# Altium schematic symbol library my schematics.SchLib: 23 symbols
Pins are listed as number, name and electrical type; pins without a type are passive.

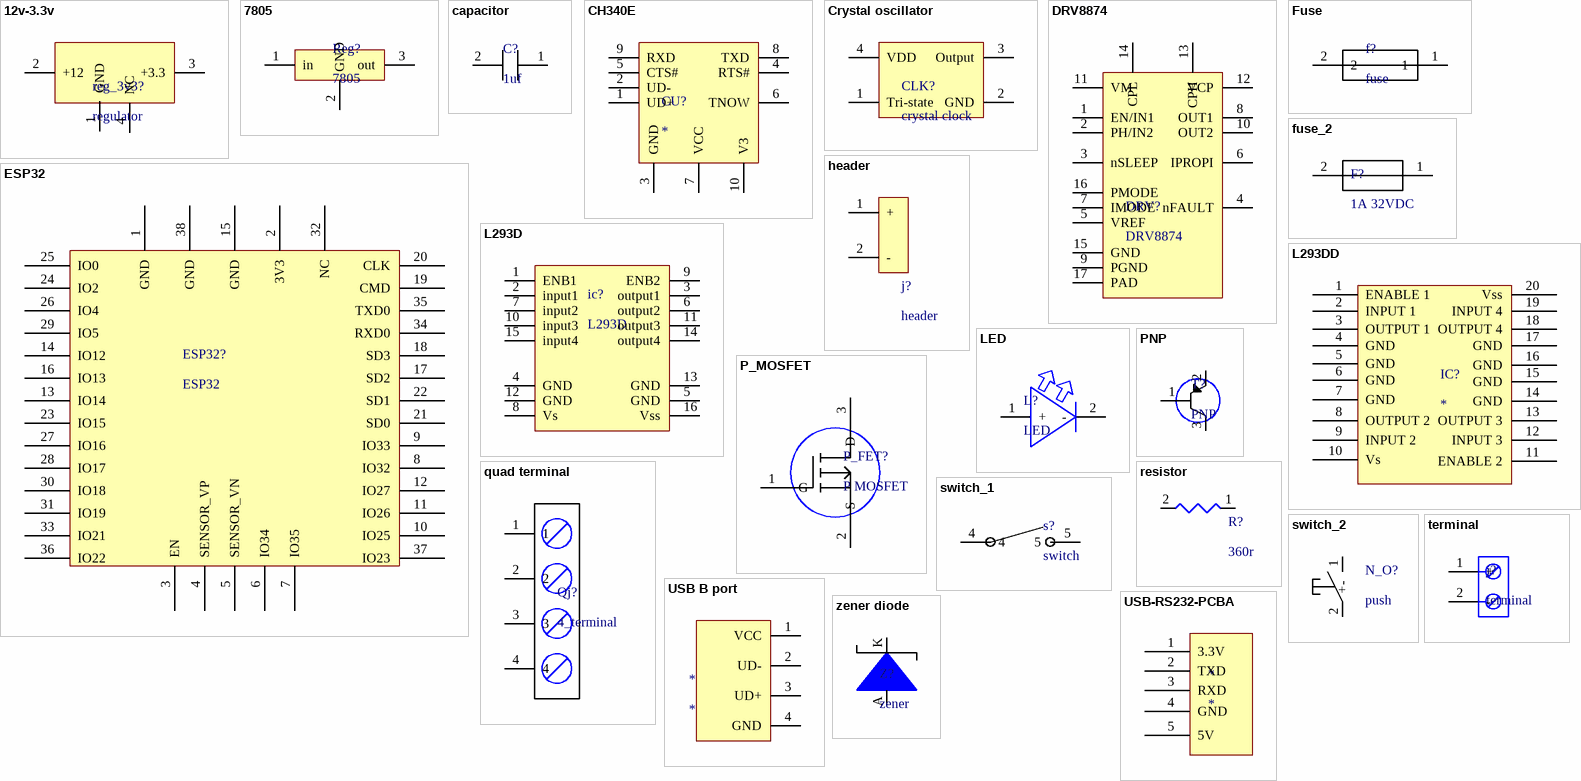
[diagram p0: symbols 12v-3.3v to zener diode]

## 12v-3.3v
designator reg_3v3?, comment regulator
Fixed Positive LDO Regulator, 3.3V, 1V Dropout, CMOS, PDSO4; Manufacturer: ON Semiconductor; Manufacturer Part Number: NCP553SQ33T1G; Package Body Material: Plastic; Dropout Voltage1-Nom: 650mV; Input Voltage Absolute-Max: 12V; Min Input Voltage: 4.3V; Line Regulation-Max: 0.0347%; Load Regulation-Max: 0.0632%; Channels: 1; Output Current1-Max: 80mA; Output Voltage1-Max: 3.399V; Output Voltage1-Min: 3.201V; Package Equivalence Code: SOT-343R; Regulator Type: FIXED POSITIVE SINGLE OUTPUT LDO REGULATOR; Time @ Peak Reflow Temperature-Max (s): 40s; Voltage Tolerance-Max: 3%; Qualification Status: Not Qualified; Supplier: Digikey; Supplier Part Number: NCP553SQ33T1GOSCT-ND; RoHS: Yes; Category: Voltage Regulators - Linear; Stock: 9110; Pricing: 1=0.63, 10=0.555, 25=0.5216, 100=0.3954, 250=0.33652, 500=0.3197, 1000=0.24399 (USD); Case/Package: TSOP; Pins: 4; Package Shape: Rectangular; Terminal Finish: Tin; Min Operating Temperature: -40°C; Max Operating Temperature: 85°C; JESD-609 Code: e3; Adjustability: FIXED; Dropout Voltage1-Max: 1V; Max Supply Voltage: 12V; JESD-30 Code: R-PDSO-G4; Moisture Sensitivity Level: 1; Number of Outputs: 1; Operating Temperature, TJ-Max: 125°C; Output Voltage1-Nom: 3.3V; Package Style: SMALL OUTLINE, THIN PROFILEMeter; Packaging: Tape and Reel; Peak Reflow Temperature (Cel): 260°C; Surface Mount: Yes; Technology: CMOS; Terminal Form: Gull Wing; Terminal Position: DUAL; Length: 2mm; Width: 1.25mm; Height - Seated (Max): 1.1mm; Terminal Pitch: 1.3mm; Reach SVHC Compliant: Yes; RoHS Compliant: Yes; ComponentLink1URL: https://datasheet.ciiva.com:443/pdfs/VipMasterIC/IC/ONSM/ONSM-S-A0003590534/ONSM-S-A0002812272-1.pdf?src-supplier=IHS+Markit; ComponentLink1Description: https://datasheet.ciiva.com:443/pdfs/VipMasterIC/IC/ONSM/ONSM-S-A0003590534/ONSM-S-A0002812272-1.pdf?src-supplier=IHS+Markit; ComponentLink2URL: https://datasheet.ciiva.com/16468/ncp552-d-16468774.pdf?src-supplier=Future+Electronics; ComponentLink2Description: https://datasheet.ciiva.com/16468/ncp552-d-16468774.pdf?src-supplier=Future+Electronics; ComponentLink3URL: https://datasheet.ciiva.com/8231/ncp553-d-8231626.pdf?src-supplier=Avnet; ComponentLink3Description: https://datasheet.ciiva.com/8231/ncp553-d-8231626.pdf?src-supplier=Avnet; ComponentLink4URL: https://datasheet.ciiva.com/6581/ncp553-d-6581414.pdf?src-supplier=Digikey; ComponentLink4Description: https://datasheet.ciiva.com/6581/ncp553-d-6581414.pdf?src-supplier=Digikey
footprint reg_3V3
pins: 1 GND, 2 +12, 3 +3.3, 4 NC

## 7805
designator Reg?
Fixed Positive Standard Regulator, 5VBIPolar, PSFM3; Manufacturer: STMicroelectronics; Manufacturer Part Number: L7805C-V; Max Supply Voltage: 25V; Min Input Voltage: 7V; Channels: 1; Output Current1-Max: 1.5A; Output Voltage1-Max: 5.25V; Output Voltage1-Min: 4.75V; Output Voltage1-Nom: 5V; Regulator Type: FIXED POSITIVE SINGLE OUTPUT STANDARD REGULATOR; Surface Mount: No; Qualification Status: Not Qualified; Supplier: Future Electronics; Supplier Part Number: 4561296; RoHS: Yes; Category: Voltage Regulators - Linear; Stock: 420050; Pricing: 50=0.137, 750=0.13, 2500=0.126, 7500=0.123, 25000=0.115 (USD); Pins: 3; Package Shape: Rectangular; Terminal Finish: Tin; JESD-609 Code: e3; Operating Temperature, TJ-Max: 125°C; Operating Temperature, TJ-Min: 0°C; Package Style: FLANGE MOUNTMeter; Technology: BIPOLAR; Terminal Form: Through Hole; Terminal Position: SINGLE; RoHS Compliant: Yes; Reach SVHC Compliant: No; ComponentLink1URL: https://datasheet.ciiva.com:443/pdfs/VipMasterIC/IC/SGST/SGST-S-A0006334694/SGST-S-A0006334694-1.pdf?src-supplier=IHS+Markit; ComponentLink1Description: https://datasheet.ciiva.com:443/pdfs/VipMasterIC/IC/SGST/SGST-S-A0006334694/SGST-S-A0006334694-1.pdf?src-supplier=IHS+Markit; ComponentLink2URL: https://datasheet.ciiva.com/15111/getdatasheetpartid-44136-15111027.pdf?src-supplier=Verical; ComponentLink2Description: https://datasheet.ciiva.com/15111/getdatasheetpartid-44136-15111027.pdf?src-supplier=Verical; ComponentLink3URL: https://datasheet.ciiva.com/19480/924633-19480531.pdf?src-supplier=Jameco; ComponentLink3Description: https://datasheet.ciiva.com/19480/924633-19480531.pdf?src-supplier=Jameco; ComponentLink4URL: https://datasheet.ciiva.com/29156/156048-da-01-en-spannungsregler-l-7805-cv-to220-stm-29156924.pdf?src-supplier=Conrad; ComponentLink4Description: https://datasheet.ciiva.com/29156/156048-da-01-en-spannungsregler-l-7805-cv-to220-stm-29156924.pdf?src-supplier=Conrad; ComponentLink5URL: https://datasheet.ciiva.com/2043/cd00000444-2043986.pdf?src-supplier=Digikey; ComponentLink5Description: https://datasheet.ciiva.com/2043/cd00000444-2043986.pdf?src-supplier=Digikey; ComponentLink6URL: https://datasheet.ciiva.com/1512/1805459-1512333.pdf?src-supplier=Element14; ComponentLink6Description: https://datasheet.ciiva.com/1512/1805459-1512333.pdf?src-supplier=Element14; ComponentLink7URL: https://datasheet.ciiva.com/14149/tel78xx-l78xxc-e-14149770.pdf?src-supplier=Distrelec; ComponentLink7Description: https://datasheet.ciiva.com/14149/tel78xx-l78xxc-e-14149770.pdf?src-supplier=Distrelec; ComponentLink8URL: https://datasheet.ciiva.com/6884/1805459-6884463.pdf?src-supplier=Newark; ComponentLink8Description: https://datasheet.ciiva.com/6884/1805459-6884463.pdf?src-supplier=Newark; ComponentLink9URL: https://datasheet.ciiva.com/2073/cd00000444-2073087.pdf?src-supplier=Digikey; ComponentLink9Description: https://datasheet.ciiva.com/2073/cd00000444-2073087.pdf?src-supplier=Digikey; ComponentLink10URL: https://datasheet.ciiva.com/16458/cd00000444-16458159.pdf?src-supplier=Future+Electronics; ComponentLink10Description: https://datasheet.ciiva.com/16458/cd00000444-16458159.pdf?src-supplier=Future+Electronics; ComponentLink11URL: https://datasheet.ciiva.com/1511/1805459-1511914.pdf?src-supplier=Element14; ComponentLink11Description: https://datasheet.ciiva.com/1511/1805459-1511914.pdf?src-supplier=Element14; ComponentLink12URL: https://datasheet.ciiva.com/1511/1805459-1511915.pdf?src-supplier=Element14; ComponentLink12Description: https://datasheet.ciiva.com/1511/1805459-1511915.pdf?src-supplier=Element14
footprint 7805
pins: 1 in, 2 GND, 3 out

## capacitor
designator C?, comment 1uf
Aluminum Electrolytic Capacitor, Aluminum (wet); Manufacturer: Wurth Electronics; Manufacturer Part Number: 860020672005; Dielectric Material: Aluminium; Supplier: Digikey; Supplier Part Number: 732-8851-1-ND; RoHS: Yes; Category: Aluminum Electrolytic Capacitors; Stock: 10459; Pricing: 1=0.1, 50=0.089, 100=0.078, 250=0.069, 500=0.06, 1000=0.058 (USD); Pins: 2; Capacitor Type: Aluminium; Reach SVHC Compliant: Yes; RoHS Compliant: Yes; ComponentLink1URL: https://datasheet.ciiva.com:443/pdfs/VipMasterIC/IC/MIDC/MIDC-S-A0000764616/MIDC-S-A0000764162-1.pdf?src-supplier=IHS+Markit; ComponentLink1Description: https://datasheet.ciiva.com:443/pdfs/VipMasterIC/IC/MIDC/MIDC-S-A0000764616/MIDC-S-A0000764162-1.pdf?src-supplier=IHS+Markit; ComponentLink2URL: http://www.farnell.com/datasheets/1879647.pdf?src-supplier=Farnell; ComponentLink2Description: http://www.farnell.com/datasheets/1879647.pdf?src-supplier=Farnell; ComponentLink3URL: http://katalog.we-online.de/pbs/datasheet/860020672005.pdf?src-supplier=Digikey; ComponentLink3Description: http://katalog.we-online.de/pbs/datasheet/860020672005.pdf?src-supplier=Digikey; ComponentLink4URL: https://katalog.we-online.de/pbs/datasheet/860020672005.pdf?src-supplier=Digikey; ComponentLink4Description: https://katalog.we-online.de/pbs/datasheet/860020672005.pdf?src-supplier=Digikey; ComponentLink5URL: http://www.farnell.com/datasheets/1879647.pdf?src-supplier=Element14; ComponentLink5Description: http://www.farnell.com/datasheets/1879647.pdf?src-supplier=Element14
footprint Capacitor
pins: 1 34, 2 33

## CH340E
designator CU?
footprint CH340E
pins: 1 UD+, 2 UD-, 3 GND, 4 RTS#, 5 CTS#, 6 TNOW, 7 VCC, 8 TXD, 9 RXD, 10 V3

## Crystal oscillator
designator CLK?, comment crystal clock
Oscillator XO 0.032768MHz ±25ppm 15pF 60% 3.3V 4-Pin SMD T/R; Manufacturer: Abracon; Manufacturer Part Number: ASEK-32.768KHZ-L-R-T; Supplier: Mouser; Supplier Part Number: 815-ASEK-32.7K-LRT; RoHS: No; Stock: 5543; Pricing: 1=1.33, 10=1.04, 50=1.04, 100=0.986, 1000=0.787, 10000=0.696 (USD)
footprint Crystal Oscillator
pins: 1 Tri-state, 2 GND, 3 Output, 4 VDD

## DRV8874
designator DRV?
Brush DC Motor Controller, 6A, PDSO16; Manufacturer: Texas Instruments; Manufacturer Part Number: DRV8874QPWPRQ1; Supplier: Digikey; Supplier Part Number: 296-DRV8874QPWPRQ1DKR-ND; RoHS: Yes; Category: Integrated Circuits (ICs); Pricing: 1=2.89, 10=2.596, 25=2.4544, 100=2.1271, 250=2.018, 500=1.81072, 1000=1.52712 (USD); RoHS Compliant: Yes; ComponentLink1URL: https://www.ti.com:443/lit/ds/symlink/drv8874-q1.pdf?src-supplier=IHS+Markit; ComponentLink1Description: https://www.ti.com:443/lit/ds/symlink/drv8874-q1.pdf?src-supplier=IHS+Markit
footprint DRV8874
footprint DRV8874
pins: 1 EN/IN1, 2 PH/IN2, 3 nSLEEP, 4 nFAULT, 5 VREF, 6 IPROPI, 7 IMODE, 8 OUT1, 9 PGND, 10 OUT2, 11 VM, 12 VCP, 13 CPH, 14 CPL, 15 GND, 16 PMODE, 17 PAD

## ESP32
designator ESP32?
footprint ESP32
pins: 1 GND, 2 3V3, 3 EN, 4 SENSOR_VP, 5 SENSOR_VN, 6 IO34, 7 IO35, 8 IO32, 9 IO33, 10 IO25, 11 IO26, 12 IO27, 13 IO14, 14 IO12, 15 GND, 16 IO13, 17 SD2, 18 SD3, 19 CMD, 20 CLK, 21 SD0, 22 SD1, 23 IO15, 24 IO2, 25 IO0, 26 IO4, 27 IO16, 28 IO17, 29 IO5, 30 IO18, 31 IO19, 32 NC, 33 IO21, 34 RXD0, 35 TXD0, 36 IO22, 37 IO23, 38 GND

## Fuse
designator f?, comment fuse
Electric Fuse, Fast Blow, 1A, 32VAC, 63VDC, 35A (IR), Surface Mount, 0603; Manufacturer: Bel; Manufacturer Part Number: 0686F1000-01; Supplier: Digikey; Supplier Part Number: 507-2147-1-ND; RoHS: Yes; Category: Fuses; Stock: 87373; Pricing: 1=0.25, 5=0.206, 10=0.19, 50=0.1582, 100=0.1462, 250=0.13176, 500=0.12174, 1000=0.11246 (USD); ComponentLink1URL: https://belfuse.com/resources/C2F%200686F%20Apr%202017.pdf?src-supplier=Digikey; ComponentLink1Description: https://belfuse.com/resources/C2F%200686F%20Apr%202017.pdf?src-supplier=Digikey
footprint Fuse
pins: 1, 2

## fuse_2
designator F?, comment 1A 32VDC
Electric Fuse, Very Fast Blow, 1.5A, 32VDC, 50A (IR), Surface Mount; Manufacturer: Vishay; Manufacturer Part Number: MFU0805FF01500P100; Joule-integral-Nom: 0.0059J; Voltage Rating (DC): 32V; Body Breadth: 1.25inch; Body Height: 0.45mm; Body Length or Diameter: 2mm; Reference Standard: UL; Supplier: Mouser; Supplier Part Number: 594-MFU0805FF01500P1; RoHS: Yes; Category: Fuses; Stock: 5466; Pricing: 1=0.59, 10=0.479, 50=0.479, 100=0.362, 1000=0.271, 10000=0.235 (USD); Mounting Technology: Surface Mount; Terminal Finish: Tin; Min Operating Temperature: 15°C; Max Operating Temperature: 35°C; JESD-609 Code: e3; Blow Characteristic: VERY FAST; Circuit Protection Type: Electric Fuse; Packaging: Tape and Reel; Rated Breaking Capacity: 50A; Current Rating: 1.5A; Termination: Wraparound; Reach SVHC Compliant: Yes; RoHS Compliant: Yes; ComponentLink1URL: https://datasheet.ciiva.com:443/pdfs/VipMasterIC/IC/VISH/VISH-S-A0001809179/VISH-S-A0001809179-1.pdf?src-supplier=IHS+Markit; ComponentLink1Description: https://datasheet.ciiva.com:443/pdfs/VipMasterIC/IC/VISH/VISH-S-A0001809179/VISH-S-A0001809179-1.pdf?src-supplier=IHS+Markit; ComponentLink2URL: http://www.farnell.com/datasheets/1480005.pdf?src-supplier=Farnell; ComponentLink2Description: http://www.farnell.com/datasheets/1480005.pdf?src-supplier=Farnell; ComponentLink3URL: http://www.mouser.com/ds/2/427/mfuserie-239895.pdf?src-supplier=Mouser; ComponentLink3Description: http://www.mouser.com/ds/2/427/mfuserie-239895.pdf?src-supplier=Mouser; ComponentLink4URL: http://www.vishay.com/docs/28747/mfuserie.pdf?src-supplier=Digikey; ComponentLink4Description: http://www.vishay.com/docs/28747/mfuserie.pdf?src-supplier=Digikey; ComponentLink5URL: http://www.vishay.com/docs/28747/mfuserie.pdf?src-supplier=Avnet; ComponentLink5Description: http://www.vishay.com/docs/28747/mfuserie.pdf?src-supplier=Avnet; ComponentLink6URL: https://datasheet.octopart.com/MFU0805FF01500P100.-Vishay-datasheet-78835177.pdf?src-supplier=Element14; ComponentLink6Description: https://datasheet.octopart.com/MFU0805FF01500P100.-Vishay-datasheet-78835177.pdf?src-supplier=Element14; ComponentLink7URL: http://www.farnell.com/datasheets/1480005.pdf?src-supplier=Element14; ComponentLink7Description: http://www.farnell.com/datasheets/1480005.pdf?src-supplier=Element14
footprint Fuse_2
pins: 1 56, 2 57

## header
designator j?
Board Connector, 2 Contact(s), 1 Row(s), Male, Straight, Solder Terminal; Manufacturer: Molex; Manufacturer Part Number: 0022292021; Supplier: Mouser; Supplier Part Number: 538-22-29-2021; RoHS: No; Stock: 4585; Pricing: 1=0.46, 10=0.314, 50=0.314, 100=0.264, 1000=0.252, 10000=0.201 (USD); category: connectors
footprint HDR1X2
pins: 1 +, 2 -

## L293D
designator ic?
Half Bridge Based Peripheral Driver, 1.2A, PDIP16; Manufacturer: STMicroelectronics; Package Body Material: Plastic; Built-in Protections: TRANSIENT,THERMAL; Output Polarity: True; Input Characteristics: STANDARD; Channels: 2; Output Characteristics: 3-STATE; Output Current Flow Direction: SOURCE AND SINK; Supply Voltage1-Max: 36V; Supply Voltage1-Min: 4.5V; Supply Voltage1-Nom: 24V; Nominal Supply Voltage: 5V; Surface Mount: No; Qualification Status: Not Qualified; Supplier: Future Electronics; Supplier Part Number: 2116481; Manufacturer Part Number: L293D; RoHS: Yes; Category: Motor Drivers; Stock: 1325; Pricing: 25=4.14, 100=4.02, 375=3.9, 625=3.85, 1250=3.71 (USD); Case/Package: DIP; Pins: 16; Package Shape: Rectangular; Terminal Finish: Tin; JESD-609 Code: e3; Interface IC Type: HALF BRIDGE BASED PERIPHERAL DRIVER; JESD-30 Code: R-PDIP-T16; Output Peak Current Limit-Nom: 1.2A; Package Style: IN-LINEMeter; Max Supply Voltage: 36V; Min Supply Voltage: 4.5V; Terminal Form: Through Hole; Terminal Position: DUAL; Length: 20mm; Width: 7.62mm; Height - Seated (Max): 5.1mm; Terminal Pitch: 2.54mm; RoHS Compliant: Yes; Reach SVHC Compliant: No; ComponentLink1URL: https://datasheet.ciiva.com:443/pdfs/VipMasterIC/IC/SGST/SGSTS19357/SGSTS19357-1.pdf?src-supplier=IHS+Markit; ComponentLink1Description: https://datasheet.ciiva.com:443/pdfs/VipMasterIC/IC/SGST/SGSTS19357/SGSTS19357-1.pdf?src-supplier=IHS+Markit; ComponentLink2URL: https://datasheet.ciiva.com/14150/ocl293d-647107-dat-en-14150297.pdf?src-supplier=Distrelec; ComponentLink2Description: https://datasheet.ciiva.com/14150/ocl293d-647107-dat-en-14150297.pdf?src-supplier=Distrelec; ComponentLink3URL: https://datasheet.ciiva.com/29307/156134-da-01-en-4-kanal-treiber-ic-l293d-stm-29307000.pdf?src-supplier=Conrad; ComponentLink3Description: https://datasheet.ciiva.com/29307/156134-da-01-en-4-kanal-treiber-ic-l293d-stm-29307000.pdf?src-supplier=Conrad; ComponentLink4URL: https://datasheet.ciiva.com/1955/cd00000059-1955400.pdf?src-supplier=Digikey; ComponentLink4Description: https://datasheet.ciiva.com/1955/cd00000059-1955400.pdf?src-supplier=Digikey; ComponentLink5URL: https://datasheet.ciiva.com/4895/cd00000059-4895945.pdf?src-supplier=Mouser; ComponentLink5Description: https://datasheet.ciiva.com/4895/cd00000059-4895945.pdf?src-supplier=Mouser; ComponentLink6URL: https://datasheet.ciiva.com/16458/cd00000059-16458220.pdf?src-supplier=Future+Electronics; ComponentLink6Description: https://datasheet.ciiva.com/16458/cd00000059-16458220.pdf?src-supplier=Future+Electronics
footprint L293D
pins: 1 ENB1, 2 input1, 3 output1, 4 GND, 5 GND, 6 output2, 7 input2, 8 Vs, 9 ENB2, 10 input3, 11 output3, 12 GND, 13 GND, 14 output4, 15 input4, 16 Vss

## L293DD
designator IC?
footprint L293DD
pins: 1 ENABLE 1, 2 INPUT 1, 3 OUTPUT 1, 4 GND, 5 GND, 6 GND, 7 GND, 8 OUTPUT 2, 9 INPUT 2, 10 Vs, 11 ENABLE 2, 12 INPUT 3, 13 OUTPUT 3, 14 GND, 15 GND, 16 GND, 17 GND, 18 OUTPUT 4, 19 INPUT 4, 20 Vss

## LED
designator L?
Single Color LED, Cool White, 2.6mm; Manufacturer: Cree; Manufacturer Part Number: JB3030AWT-P-H65EA0000-N0000001; Supplier: Digikey; Supplier Part Number: 2138-JB3030AWT-P-H65EA0000-N0000001CT-ND; RoHS: Yes; Category: LEDs; Stock: 65459; Pricing: 1=0.1, 10=0.085, 100=0.0753, 500=0.06218, 1000=0.05563 (USD)
footprint LED
pins: 1 +, 2 -

## P_MOSFET
designator P_FET?, comment P MOSFET
Trans MOSFET P-CH 50V 0.18A Automotive AEC-Q101 3-Pin SOT-23 T/R; Manufacturer: Nexperia; Manufacturer Part Number: BSS84AK,215; Drain to Source Resistance: 4.5R; Supplier: Future Electronics; Supplier Part Number: 2027648; RoHS: Yes; Category: MOSFETs; Stock: 738000; Pricing: 3000=0.019, 9000=0.0184, 30000=0.0176, 60000=0.0173, 120000=0.0165 (USD); Pins: 3NUMBER; Packaging: 10Packaging; RoHS Compliant: Yes; ComponentLink1URL: http://www.farnell.com/datasheets/1443354.pdf?src-supplier=Farnell; ComponentLink1Description: http://www.farnell.com/datasheets/1443354.pdf?src-supplier=Farnell; ComponentLink2URL: https://assets.nexperia.com/documents/data-sheet/BSS84AK.pdf?src-supplier=Digikey; ComponentLink2Description: https://assets.nexperia.com/documents/data-sheet/BSS84AK.pdf?src-supplier=Digikey
footprint P-MOSFET
pins: 1 G, 2 S, 3 D

## PNP
designator T?
Trans Digital BJT PNP 12V 500mA 3-Pin EMT T/R; Manufacturer: Rohm; Manufacturer Part Number: DTB523YETL; Supplier 1: Mouser; RoHS: Yes; Category: BJTs; Stock 1: 2983; Pricing 1: 1=0.46, 10=0.288, 50=0.288, 100=0.137, 1000=0.117, 10000=0.066 (USD); ComponentLink1URL: https://datasheet.ciiva.com/11208/dtb523ye-11208896.pdf?src-supplier=Avnet; ComponentLink1Description: https://datasheet.ciiva.com/11208/dtb523ye-11208896.pdf?src-supplier=Avnet; ComponentLink2URL: https://datasheet.ciiva.com/6360/dtb523ye-6360234.pdf?src-supplier=Digikey; ComponentLink2Description: https://datasheet.ciiva.com/6360/dtb523ye-6360234.pdf?src-supplier=Digikey; ComponentLink3URL: https://datasheet.ciiva.com/6360/dtb523ye-6360236.pdf?src-supplier=Digikey; ComponentLink3Description: https://datasheet.ciiva.com/6360/dtb523ye-6360236.pdf?src-supplier=Digikey; ComponentLink4URL: https://datasheet.ciiva.com/6360/dtb523ye-6360237.pdf?src-supplier=Digikey; ComponentLink4Description: https://datasheet.ciiva.com/6360/dtb523ye-6360237.pdf?src-supplier=Digikey; Supplier Part Number 1: 755-DTB523YETL
footprint Diode
pins: 1 B, 2 C, 3 E

## quad terminal
designator Qj?, comment 4_terminal
Barrier Strip Terminal Block, 12A, 1.5mm2, 1 Row(s), 1 Deck(s); Manufacturer: Phoenix Contact; Manufacturer Part Number: 1934887; Fastening Method: SCREW; Number of Decks: 1; Number of Ways: 4; Voltage Rating: 250V; Wire/Cable Gauge: 14AWG; Safety Approval: UL; Supplier: Rs; Supplier Part Number: 4680931; RoHS: Yes; Category: Terminal Blocks; Stock: 125; Pricing: 5=1.204, 125=1.172, 375=1.14, 1000=1.108, 2000=1.08 (GBP); Mounting Technology: Board; Terminal and Terminal Block Type: BARRIER STRIP TERMINAL BLOCK; Number of Rows: 1; Current Rating: 12A; Wire Cross Section: 1.5mm2; RoHS Compliant: Yes; Reach SVHC Compliant: Yes; ComponentLink1URL: https://www.phoenixcontact.com:443/online/portal/us?uri=pxc-oc-itemdetail%3apid%3d1934887&library=usen&pcck=P-11-02-11&tab=1&src-supplier=IHS+Markit; ComponentLink1Description: https://www.phoenixcontact.com:443/online/portal/us?uri=pxc-oc-itemdetail%3apid%3d1934887&library=usen&pcck=P-11-02-11&tab=1&src-supplier=IHS+Markit; ComponentLink2URL: https://datasheet.ciiva.com/16047/1934887-16047240.pdf?src-supplier=Onlinecomponents.com; ComponentLink2Description: https://datasheet.ciiva.com/16047/1934887-16047240.pdf?src-supplier=Onlinecomponents.com; ComponentLink3URL: https://datasheet.ciiva.com/15169/getdatasheetpartid-177849-15169637.pdf?src-supplier=Verical; ComponentLink3Description: https://datasheet.ciiva.com/15169/getdatasheetpartid-177849-15169637.pdf?src-supplier=Verical; ComponentLink4URL: https://datasheet.ciiva.com/795/combiconcompact5-0mmseries-795415.pdf?src-supplier=Digikey; ComponentLink4Description: https://datasheet.ciiva.com/795/combiconcompact5-0mmseries-795415.pdf?src-supplier=Digikey; ComponentLink5URL: https://datasheet.ciiva.com/14608/70054929-14608235.pdf?src-supplier=Allied+Electronics; ComponentLink5Description: https://datasheet.ciiva.com/14608/70054929-14608235.pdf?src-supplier=Allied+Electronics; ComponentLink6URL: https://datasheet.ciiva.com/29224/744154-da-01-en-printklemme-pt-1-5-4-pvh-5-0-29224875.pdf?src-supplier=Conrad; ComponentLink6Description: https://datasheet.ciiva.com/29224/744154-da-01-en-printklemme-pt-1-5-4-pvh-5-0-29224875.pdf?src-supplier=Conrad
footprint 4 position terminal block
pins: 1, 2, 3, 4

## resistor
designator R?, comment 360r
Fixed Resistor, Metal Glaze/thick Film, 0.125W, 360ohm, 150V, 1% +/-Tol, 100ppm/Cel, Surface Mount, 0805; Manufacturer: Vishay; Manufacturer Part Number: CRCW0805360RFKEA; Power: 125mW; Rated Temperature: 70°C; Temperature Coefficient: 100ppm/°C; Package Height: 0.45mm; Package Length: 2mm; Package Width: 1.25mm; Reference Standard: AEC-Q200; Supplier: Mouser; Supplier Part Number: 71-CRCW0805360RFKEA; RoHS: Yes; Category: Chip SMD Resistors; Stock: 921; Pricing: 1=0.1, 10=0.025, 50=0.025, 100=0.015, 1000=0.012, 10000=0.008 (USD); Mounting Technology: Surface Mount; Pins: 2; Package Shape: Rectangular; Case/Package: 0805; Terminal Finish: Nickel; Min Operating Temperature: -55°C; Max Operating Temperature: 155°C; Tolerance: 1%; JESD-609 Code: e3; Resistor Type: FIXED RESISTOR; Construction: Chip; Package Style: SMTMeter; Packaging: Tape and Reel; Value: 360R; Technology: METAL GLAZE/THICK FILM; Termination: Wraparound; Working Voltage: 150V; Reach SVHC Compliant: Yes; RoHS Compliant: Yes; ComponentLink1URL: https://datasheet.ciiva.com:443/pdfs/VipMasterIC/IC/VISH/VISH-S-A0007266705/VISH-S-A0007266705-1.pdf?src-supplier=IHS+Markit; ComponentLink1Description: https://datasheet.ciiva.com:443/pdfs/VipMasterIC/IC/VISH/VISH-S-A0007266705/VISH-S-A0007266705-1.pdf?src-supplier=IHS+Markit; ComponentLink2URL: https://datasheet.ciiva.com/2467/dcrcwe3-2467773.pdf?src-supplier=Digikey; ComponentLink2Description: https://datasheet.ciiva.com/2467/dcrcwe3-2467773.pdf?src-supplier=Digikey
footprint R0805
pins: 1, 2

## switch_1
designator s?, comment switch
Toggle Switch, SPDT, On-on, Horizontal, 9 PCB Hole Cnt, Solder Terminal, Toggle Column Actuator, Surface Mount-straight; Manufacturer: NKK Switches; Manufacturer Part Number: G3T12AB; Manufacturer Series: G3; Actuator Material: Polyphenylene; End Contact Plating: Gold; End Contact Material: Bronze; Actuator Angle: 28°; Contact DC Max Power Rating R Load: 0.4VA@28VDC; Contact Resistance: 0.08mR; Dielectric Withstand Volts: 500VACV; Electrical Life: 50000Cycles; Insulation Resistance: 500MR; PCB Hole Count: 9; Solderability: WAVE; Actuator Length: 0.15inch; Body Breadth: 5.0038inch; Body Height: 12.9032mm; Body Length or Diameter: 10.9982mm; Bushing Diameter: 0.157inch; Bushing Length: 0.059inch; Sealing: EPOXY; Supplier: Digikey; Supplier Part Number: 360-3268-ND; RoHS: Yes; Category: Toggle Switches; Stock: 11404; Pricing: 1=5.24, 10=4.519, 25=4.2616, 40=4.13475, 80=3.95475, 230=3.69478, 440=3.54341, 945=3.3727 (USD); Mounting Technology: Surface Mount; Contact Material: Bronze; Center Contact Plating: Gold; Housing Material: Polyphenylene; Insulation Material: Polyphenylene; Terminal Finish: Gold; Terminal Material: Bronze; Min Operating Temperature: -25°C; Max Operating Temperature: 70°C; JESD-609 Code: e4; Actuator Type: Toggle; Contact Function: On-On; Switch Action: HORIZONTAL; Switch Function: SPDT; Switch Type: Toggle; Termination: Solder; Terminal Length: 0inch; Reach SVHC Compliant: Yes; RoHS Compliant: Yes; ComponentLink1URL: https://datasheet.ciiva.com:443/pdfs/VipMasterIC/IC/NKSW/NKSWS00071/NKSWS00071-1.pdf?src-supplier=IHS+Markit; ComponentLink1Description: https://datasheet.ciiva.com:443/pdfs/VipMasterIC/IC/NKSW/NKSWS00071/NKSWS00071-1.pdf?src-supplier=IHS+Markit; ComponentLink2URL: https://datasheet.ciiva.com/28398/1783573-28398363.pdf?src-supplier=Element14; ComponentLink2Description: https://datasheet.ciiva.com/28398/1783573-28398363.pdf?src-supplier=Element14
footprint Push button
pins: 4, 5

## switch_2
designator N_O?, comment push
Pushbutton Switch; Manufacturer: E-Switch; Manufacturer Part Number: 800CSP1B6M2QE; Supplier: Digikey; Supplier Part Number: EG5543-ND; RoHS: No; Category: Pushbutton Switches; Stock: 192; Pricing: 1=2.89, 10=2.582, 25=2.446, 50=2.3596, 100=2.2361, 270=2.175 (USD); Reach SVHC Compliant: Yes; ComponentLink1URL: https://www.e-switch.com/system/asset/product_line/data_sheet/214/800C.pdf?src-supplier=Digikey; ComponentLink1Description: https://www.e-switch.com/system/asset/product_line/data_sheet/214/800C.pdf?src-supplier=Digikey
footprint PUSH_BUTTON
pins: 1 -, 2 +

## terminal
designator j?
Barrier Strip Terminal Block; Manufacturer: Wurth Electronics; Manufacturer Part Number: 691137710002; Supplier: Rs; Supplier Part Number: 1769908; RoHS: No; Category: Terminal Blocks; Stock: 355; Pricing: 500=0.218, 1000=0.202, 2500=0.189 (GBP); RoHS Compliant: Yes; ComponentLink1URL: https://datasheet.ciiva.com:443/pdfs/VipMasterIC/IC/MIDC/MIDC-S-A0005074262/MIDC-S-A0004711666-1.pdf?src-supplier=IHS+Markit; ComponentLink1Description: https://datasheet.ciiva.com:443/pdfs/VipMasterIC/IC/MIDC/MIDC-S-A0005074262/MIDC-S-A0004711666-1.pdf?src-supplier=IHS+Markit; ComponentLink2URL: https://katalog.we-online.de/em/datasheet/691137710002.pdf?src-supplier=Digikey; ComponentLink2Description: https://katalog.we-online.de/em/datasheet/691137710002.pdf?src-supplier=Digikey
footprint terminal
pins: 1 +, 2 -

## USB B port
designator *
footprint USB B port
pins: 1 VCC, 2 UD-, 3 UD+, 4 GND

## USB-RS232-PCBA
designator *
footprint CP2102
pins: 1 3.3V, 2 TXD, 3 RXD, 4 GND, 5 5V

## zener diode
designator Z?, comment zener
Zener Diode, 12V V(Z), 5.39%, 0.37W, Silicon, Unidirectional; Manufacturer: Diodes; Manufacturer Part Number: BZT52C12-13-F; Supplier: Digikey; Supplier Part Number: BZT52C1213-FDICT-ND; RoHS: No; Category: Zener Diodes; Stock: 483720; Pricing: 1=0.15, 10=0.101, 100=0.0494, 500=0.04118, 1000=0.02861, 2000=0.02479, 5000=0.023 (USD); RoHS Compliant: No; ComponentLink1URL: https://datasheet.ciiva.com:443/pdfs/VipMasterIC/IC/DIOD/DIODS15473/DIODS15473-1.pdf?src-supplier=IHS+Markit; ComponentLink1Description: https://datasheet.ciiva.com:443/pdfs/VipMasterIC/IC/DIOD/DIODS15473/DIODS15473-1.pdf?src-supplier=IHS+Markit; ComponentLink2URL: http://www.farnell.com/datasheets/2704937.pdf?src-supplier=Farnell; ComponentLink2Description: http://www.farnell.com/datasheets/2704937.pdf?src-supplier=Farnell; ComponentLink3URL: http://components.arrow.com/part/dataview/43501861S426489N2867?src-supplier=Arrow+Electronics; ComponentLink3Description: http://components.arrow.com/part/dataview/43501861S426489N2867?src-supplier=Arrow+Electronics; ComponentLink4URL: https://www.diodes.com/assets/Datasheets/ds18004.pdf?src-supplier=Digikey; ComponentLink4Description: https://www.diodes.com/assets/Datasheets/ds18004.pdf?src-supplier=Digikey; ComponentLink5URL: http://www.diodes.com/datasheets/ds18004.pdf?src-supplier=Avnet; ComponentLink5Description: http://www.diodes.com/datasheets/ds18004.pdf?src-supplier=Avnet; ComponentLink6URL: http://www.farnell.com/datasheets/2704937.pdf?src-supplier=Newark; ComponentLink6Description: http://www.farnell.com/datasheets/2704937.pdf?src-supplier=Newark
footprint zeber
pins: A 24, K 23